# Altium footprint library K60P144.PcbLib: 14 footprints
Each footprint in its own frame and in the unit in brackets; x right, y up, seen from the top. Pads: shape width x height; smd on the part's side, far side on the other; paste and mask are expansions set on the pad; w line width, h text height; cw(c..) or ccw(c..) is an arc to the next point about the centre after c.
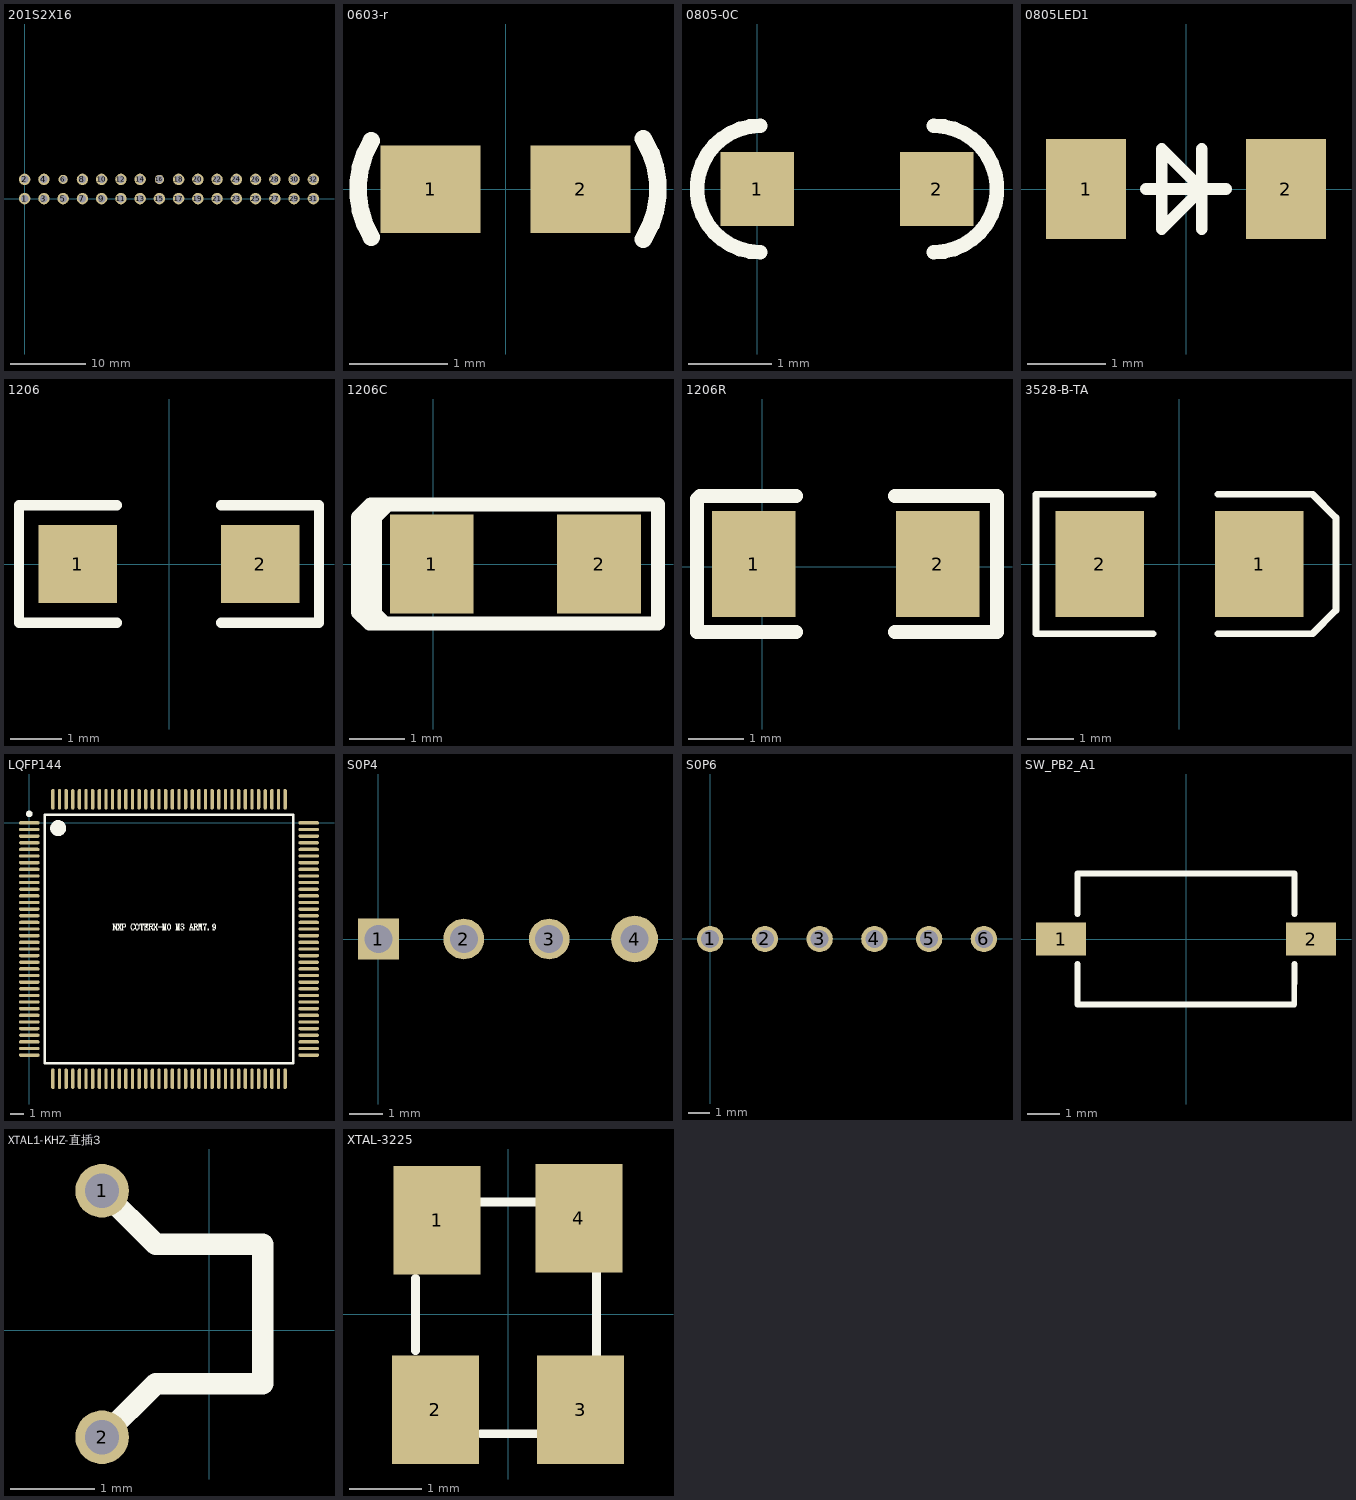
[diagram p0: the footprints below, top view; thin cyan lines are the x and y axes]

## 201S2X16 [mm]
pads (32):
  round 1.5 hole 1: 1(0,0) 2(0,2.54) 3(2.54,0) 4(2.54,2.54) 5(5.08,0) 7(7.62,0) 8(7.62,2.54) 9(10.16,0) 10(10.16,2.54) 11(12.7,0) 12(12.7,2.54) 13(15.24,0) 14(15.24,2.54) 15(17.78,0) 17(20.32,0) 18(20.32,2.54) 19(22.86,0) 20(22.86,2.54) 21(25.4,0) 22(25.4,2.54) 23(27.94,0) 24(27.94,2.54) 25(30.48,0) 26(30.48,2.54) 27(33.02,0) 28(33.02,2.54) 29(35.56,0) 30(35.56,2.54) 31(38.1,0) 32(38.1,2.54)
  round 1.219 hole 0.838: 6(5.08,2.54)
  round 1.219 hole 1: 16(17.78,2.54)
3D body: height 3, standoff -8.54, extent 34.29,-1.27 39.37,3.81
3D body: height 1.27, standoff -8.89, extent -1.27,-1.27 34.29,3.81

## 0603-r [mil]
pads (2):
  rect 40x35 smd: 1(-30,0) 2(30,0)
Top Overlay:
  lines w7: -53.7,-19.22 cw(c-21.5,0) -53.7,19.22 ; 55.16,-20.1 ccw(c23.5,0) 55.16,20.1
3D body: height 22.05, standoff 0, extent -33.46,-15.74 33.47,15.75

## 0805-0C [mil]
pads (2):
  rect 35x35 smd: 1(0,0) 2(85,0)
Top Overlay:
  lines w7: 1.42,-30 cw(c1.42,0) 1.42,30 ; 83.58,-30 ccw(c83.58,0) 83.58,30
3D body: height 30.39, standoff -0.39, extent 3.15,-24.61 81.89,24.61

## 0805LED1 [mil]
pads (2):
  rect 40x50 smd: 1(-50,0) 2(50,0)
Top Overlay:
  lines w5.91: -20,0 20,0 ; 7.87,-20 7.87,20 ; -12.13,-20 -12.13,20 7.87,0 -12.13,-20
3D body: height 43.31, standoff 0, extent -36.61,-24.21 42.91,25

## 1206 [mil]
pads (2):
  rect 60x60 smd: 1(-70,0) 2(70,0)
Top Overlay:
  lines w7.87: -40,-45 -115,-45 -115,45 -40,45 ; 40,-45 115,-45 115,45 40,45
3D body: height 39.37, standoff 0, extent -75,-35 -55,35
3D body: height 39.37, standoff 0, extent 55,-35 75,35
3D body: height 39.37, standoff 0, extent -55,-35 55,35

## 1206C [mil]
pads (2):
  rect 59.06x70 smd: 1(-1,0) 2(117.11,0)
Top Overlay:
  lines w10: -46,-35 -46,35 ; -41,-25 -41,-34.94 -33.94,-42 -44.94,-42 -52.94,-34 -52.94,33 -43.94,42 -41,42 ; -41,21 -41,32.94 -31.94,42 ; -41,42 35,42 83.69,42 158.69,42 158.69,41 158.69,-42 84.69,-42 35,-42 -40,-42 -41,-41 -41,42
3D body: height 37.4, standoff 0, extent -5,-32 120.98,30.99

## 1206R [mil]
pads (2):
  rect 59.06x75 smd: 1(-6,2) 2(124,2)
Top Overlay:
  lines w10: 24,-46 -46,-46 -46,48 -44,50 24,50 ; 94,-46 166,-46 166,-2 166,50 94,50
3D body: height 33.46, standoff 0, extent -7.95,-32 123.94,36.11

## 3528-B-TA [mil]
pads (2):
  rect 75x90 smd: 1(67.5,0) 2(-67.5,0)
Top Overlay:
  lines w5.91: -22.5,-59.05 -121.48,-59.05 -121.48,59.05 -22.5,59.05 ; 32.5,-59.05 112.5,-59.05 132.5,-39.05 ; 32.5,59.05 112.5,59.05 132.5,39.05 ; 132.5,-39.37 132.5,39.37
3D body: height 74.8, standoff 0, extent -68.9,-55 68.9,55.24

## LQFP144 [mm]
pads (144):
  oval 1.55x0.25 smd: 1(0,0) 2(0,-0.5) 3(0,-1) 4(0,-1.5) 5(0,-2) 6(0,-2.5) 7(0,-3) 8(0,-3.5) 9(0,-4) 10(0,-4.5) 11(0,-5) 12(0,-5.5) 13(0,-6) 14(0,-6.5) 15(0,-7) 16(0,-7.5) 17(0,-8) 18(0,-8.5) 19(0,-9) 20(0,-9.5) 21(0,-10) 22(0,-10.5) 23(0,-11) 24(0,-11.5) 25(0,-12) 26(0,-12.5) 27(0,-13) 28(0,-13.5) 29(0,-14) 30(0,-14.5) 31(0,-15) 32(0,-15.5) 33(0,-16) 34(0,-16.5) 35(0,-17) 36(0,-17.5) 73(21.05,-17.5) 74(21.05,-17) 75(21.05,-16.5) 76(21.05,-16) 77(21.05,-15.5) 78(21.05,-15) 79(21.05,-14.5) 80(21.05,-14) 81(21.05,-13.5) 82(21.05,-13) 83(21.05,-12.5) 84(21.05,-12) 85(21.05,-11.5) 86(21.05,-11) 87(21.05,-10.5) 88(21.05,-10) 89(21.05,-9.5) 90(21.05,-9) 91(21.05,-8.5) 92(21.05,-8) 93(21.05,-7.5) 94(21.05,-7) 95(21.05,-6.5) 96(21.05,-6) 97(21.05,-5.5) 98(21.05,-5) 99(21.05,-4.5) 100(21.05,-4) 101(21.05,-3.5) 102(21.05,-3) 103(21.05,-2.5) 104(21.05,-2) 105(21.05,-1.5) 106(21.05,-1) 107(21.05,-0.5) 108(21.05,0)
  oval 0.25x1.55 smd: 37(1.775,-19.275) 38(2.275,-19.275) 39(2.775,-19.275) 40(3.275,-19.275) 41(3.775,-19.275) 42(4.275,-19.275) 43(4.775,-19.275) 44(5.275,-19.275) 45(5.775,-19.275) 46(6.275,-19.275) 47(6.775,-19.275) 48(7.275,-19.275) 49(7.775,-19.275) 50(8.275,-19.275) 51(8.775,-19.275) 52(9.275,-19.275) 53(9.775,-19.275) 54(10.275,-19.275) 55(10.775,-19.275) 56(11.275,-19.275) 57(11.775,-19.275) 58(12.275,-19.275) 59(12.775,-19.275) 60(13.275,-19.275) 61(13.775,-19.275) 62(14.275,-19.275) 63(14.775,-19.275) 64(15.275,-19.275) 65(15.775,-19.275) 66(16.275,-19.275) 67(16.775,-19.275) 68(17.275,-19.275) 69(17.775,-19.275) 70(18.275,-19.275) 71(18.775,-19.275) 72(19.275,-19.275) 109(19.275,1.775) 110(18.775,1.775) 111(18.275,1.775) 112(17.775,1.775) 113(17.275,1.775) 114(16.775,1.775) 115(16.275,1.775) 116(15.775,1.775) 117(15.275,1.775) 118(14.775,1.775) 119(14.275,1.775) 120(13.775,1.775) 121(13.275,1.775) 122(12.775,1.775) 123(12.275,1.775) 124(11.775,1.775) 125(11.275,1.775) 126(10.775,1.775) 127(10.275,1.775) 128(9.775,1.775) 129(9.275,1.775) 130(8.775,1.775) 131(8.275,1.775) 132(7.775,1.775) 133(7.275,1.775) 134(6.775,1.775) 135(6.275,1.775) 136(5.775,1.775) 137(5.275,1.775) 138(4.775,1.775) 139(4.275,1.775) 140(3.775,1.775) 141(3.275,1.775) 142(2.775,1.775) 143(2.275,1.775) 144(1.775,1.775)
Top Overlay:
  drawing of 357 lines, arcs and shapes, not listed
3D body: height 1.1, standoff 0, extent -0.554,-19.731 21.463,2.286

## S0P4 [mil]
pads (4):
  rect 48x48 hole 33: 1(0,0)
  round 48 hole 33: 2(100.39,0) 3(200.79,0)
  round 55 hole 33: 4(301.18,0)
3D body: height 331.5, standoff -125.98, extent -59.25,-50 360.43,50

## S0P6 [mil]
pads (6):
  round 48 hole 33: 1(0,0) 2(100,0) 3(200,0) 4(300,0) 5(400,0) 6(500,0)
3D body: height 331.5, standoff -125.98, extent -59.84,-50 559.84,50

## SW_PB2_A1 [mil]
pads (2):
  rect 60x40 smd: 1(-150,0) 2(150,0)
Top Overlay:
  lines w7: -130.16,-30 -130.16,-78.74 129.9,-78.74 130.16,-30 ; -130.16,30 -130.16,78.74 130,78.74 130,30
3D body: height 47.24, standoff 31.5, extent -50,-30 50,30
3D body: height 31.5, standoff 0, extent -125,-80 125,80

## XTAL1-KHZ-直插3 [mil]
pads (2):
  round 25 hole 16: 1(-50,65) 2(-50,-50)
Top Overlay:
  lines w10: -50,-50 -25,-25 25,-25 25,40 -25,40 -50,65

## XTAL-3225 [mm]
pads (4):
  rect 1.2x1.5 smd: 1(-0.978,1.295) 2(-1.003,-1.321) 3(1.003,-1.321) 4(0.978,1.321)
Top Overlay:
  lines w0.12: -1.278,-0.505 -1.278,0.495 ; -0.378,-1.655 0.422,-1.655 ; -0.378,1.545 0.422,1.545 ; 1.222,-0.605 1.222,0.595
3D body: height 0.8, standoff 0, extent -1.268,-1.651 1.232,1.549